# Altium schematic symbol library drive.SchLib: 17 symbols
Pins are listed as number, name and electrical type; pins without a type are passive.

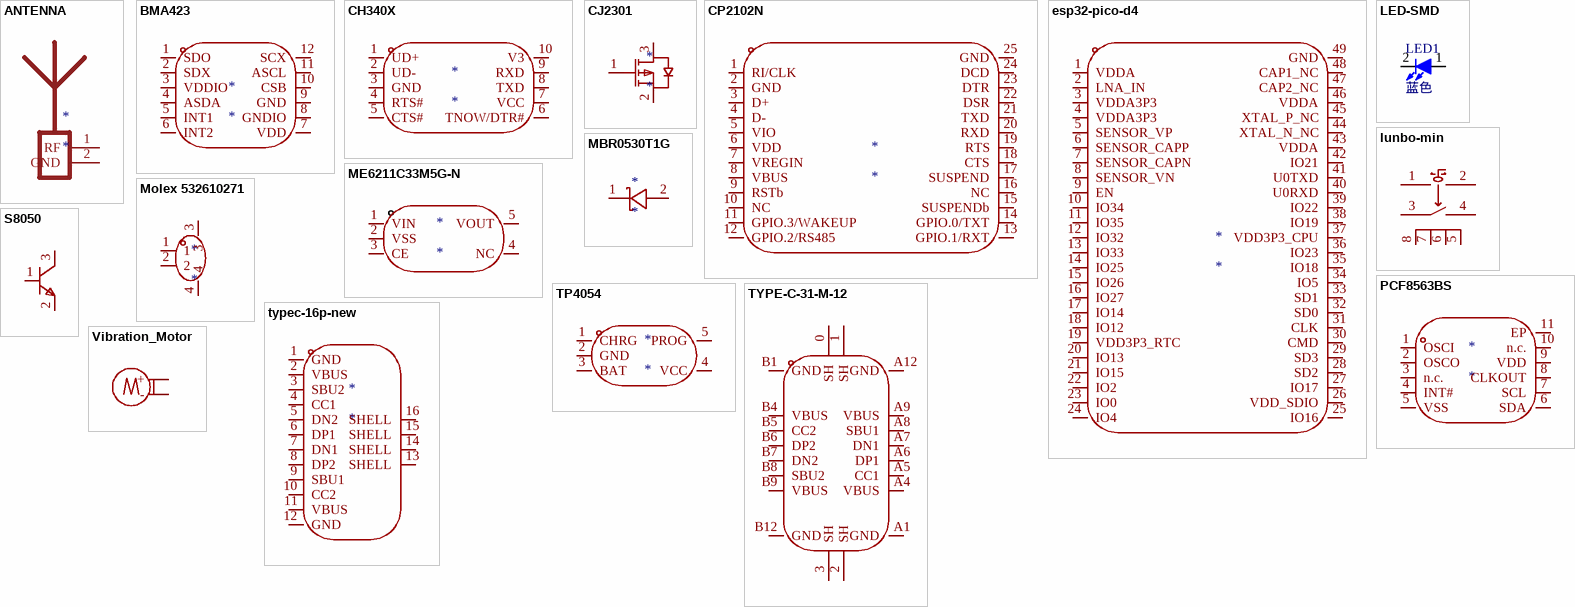
[diagram p0: symbols ANTENNA to Vibration_Motor]

## ANTENNA
designator *
pins: 1 RF, 2 GND

## BMA423
designator *
pins: 1 SDO, 2 SDX, 3 VDDIO, 4 ASDA, 5 INT1, 6 INT2, 7 VDD, 8 GNDIO, 9 GND, 10 CSB, 11 ASCL, 12 SCX

## CH340X
designator *
pins: 1 UD+, 2 UD-, 3 GND, 4 RTS#, 5 CTS#, 6 TNOW/DTR#, 7 VCC, 8 TXD, 9 RXD, 10 V3

## CJ2301
designator *
pins: 1 G, 2 S, 3 D

## CP2102N
designator *
pins: 1 RI/CLK, 2 GND, 3 D+, 4 D-, 5 VIO, 6 VDD, 7 VREGIN, 8 VBUS, 9 RSTb, 10 NC, 11 GPIO.3/WAKEUP, 12 GPIO.2/RS485, 13 GPIO.1/RXT, 14 GPIO.0/TXT, 15 SUSPENDb, 16 NC, 17 SUSPEND, 18 CTS, 19 RTS, 20 RXD, 21 TXD, 22 DSR, 23 DTR, 24 DCD, 25 GND

## esp32-pico-d4
designator *
pins: 1 VDDA, 2 LNA_IN, 3 VDDA3P3, 4 VDDA3P3, 5 SENSOR_VP, 6 SENSOR_CAPP, 7 SENSOR_CAPN, 8 SENSOR_VN, 9 EN, 10 IO34, 11 IO35, 12 IO32, 13 IO33, 14 IO25, 15 IO26, 16 IO27, 17 IO14, 18 IO12, 19 VDD3P3_RTC, 20 IO13, 21 IO15, 22 IO2, 23 IO0, 24 IO4, 25 IO16, 26 VDD_SDIO, 27 IO17, 28 SD2, 29 SD3, 30 CMD, 31 CLK, 32 SD0, 33 SD1, 34 IO5, 35 IO18, 36 IO23, 37 VDD3P3_CPU, 38 IO19, 39 IO22, 40 U0RXD, 41 U0TXD, 42 IO21, 43 VDDA, 44 XTAL_N_NC, 45 XTAL_P_NC, 46 VDDA, 47 CAP2_NC, 48 CAP1_NC, 49 GND

## LED-SMD
designator LED1, comment 蓝色
贴片LED; 版权归属: 源创客; BOM名称: 贴片LED; 学习资源: www.ooocke.com
footprint LED0402
pins: 1 A, 2 K

## lunbo-min
designator SW??, comment TM-2024A  (value not drawn)
Manufacturer: XKB Connection(中国星坤); Add into BOM: yes; Symbol: TM-2024A; Device: TM-2024A; LCSC Part Name: 四脚两档拨轮开关TM-2024A; Supplier Part: C561480; Manufacturer Part: TM-2024A; Supplier Footprint: SMD; JLCPCB Part Class: Extended Part; Datasheet: https://atta.szlcsc.com/upload/public/pdf/source/20211011/7A4DB3DC37E7D5823B6D92C66ED3191E.pdf; Supplier: LCSC; Convert to PCB: yes
footprint SW-SMD_TM-2024A
3D model SW-SMD_TM-2024A
pins: 1, 2, 3, 4, 5, 6, 7, 8

## MBR0530T1G
designator *
pins: 1 C, 2 A

## ME6211C33M5G-N
designator *
pins: 1 VIN, 2 VSS, 3 CE, 4 NC, 5 VOUT

## Molex 532610271
designator *
pins: 1, 2, 3, 4

## PCF8563BS
designator *
pins: 1 OSCI, 2 OSCO, 3 n.c., 4 INT#, 5 VSS, 6 SDA, 7 SCL, 8 CLKOUT, 9 VDD, 10 n.c., 11 EP

## S8050
designator *  (value not drawn)
Manufacturer: 宏嘉诚; Symbol: S8050_C20069125; Add into BOM: yes; Current - Collector(Ic): 500mA; Collector - Emitter Voltage VCEO: 25V; Pd - Power Dissipation: 300mW; DC Current Gain: 120@50mA,1.0V; Transition frequency(fT): 100MHz; Current - Collector Cutoff: 100nA; Vce Saturation(VCE(sat)): 600mV; Device: S8050_C20069125; LCSC Part Name: hFE:200-350，丝印:J3Y S8050; Supplier Part: C20069125; Manufacturer Part: S8050; Supplier Footprint: SOT-23; JLCPCB Part Class: Extended Part; Datasheet: https://atta.szlcsc.com/upload/public/pdf/source/20250107/343E8B94B5C24D0D65D7D4B70E0B73F6.pdf; Supplier: LCSC; Convert to PCB: yes; type: NPN; Operating Temperature: -55℃~+150℃
footprint SOT-23-3_L2.9-W1.3-P1.90-LS2.3-BR
3D model SOT-23-3_L2.9-W1.3-P1.90-LS2.3-BR
pins: 1 B, 2 E, 3 C

## TP4054
designator *
pins: 1 CHRG, 2 GND, 3 BAT, 4 VCC, 5 PROG

## TYPE-C-31-M-12
designator USBC??  (value not drawn)
Manufacturer: 韩国韩荣; Add into BOM: yes; Connector Type: Type-C; Gender: 母; Number of Contacts: 16P; Number of Ports: 1; Current Rating - Power (Max): 5A; Symbol: TYPE-C-31-M-12; Device: TYPE-C-31-M-12; LCSC Part Name: Type-C 母; Supplier Part: C165948; Manufacturer Part: TYPE-C-31-M-12; Supplier Footprint: SMD; JLCPCB Part Class: Extended Part; Datasheet: https://atta.szlcsc.com/upload/public/pdf/source/20220525/466408E853115E789EDB0DDC29077C05.pdf; Supplier: LCSC; Convert to PCB: yes; Standard: -; Mounting Style: -; Operating Temperature Range: -
footprint USB-C_SMD-TYPE-C-31-M-12
pins: 0 SH, 1 SH, 2 SH, 3 SH, A1 GND, A4 VBUS, A5 CC1, A6 DP1, A7 DN1, A8 SBU1, A9 VBUS, A12 GND, B1 GND, B4 VBUS, B5 CC2, B6 DP2, B7 DN2, B8 SBU2, B9 VBUS, B12 GND

## typec-16p-new
designator *
pins: 1 GND, 2 VBUS, 3 SBU2, 4 CC1, 5 DN2, 6 DP1, 7 DN1, 8 DP2, 9 SBU1, 10 CC2, 11 VBUS, 12 GND, 13 SHELL, 14 SHELL, 15 SHELL, 16 SHELL

## Vibration_Motor
designator MOT??, comment LCM1027A2445F  (value not drawn)
Manufacturer: LEADER(立得); Add into BOM: yes; Rated Voltage: 3V; Rated Current: 80mA; Rated Speed: 10000rpm; Sense Of Rotation: CW；CCW; Symbol: LCM1027A2445F; Device: LCM1027A2445F; LCSC Part Name: 扁平1027 振动马达; Supplier Part: C2759984; Manufacturer Part: LCM1027A2445F; Supplier Footprint: -; JLCPCB Part Class: Extended Part; Datasheet: https://atta.szlcsc.com/upload/public/pdf/source/20210326/C2759984_5008EC97BD438BDFB6866D31635439F4.pdf; Supplier: LCSC; Convert to PCB: yes; Type: 扁平振动马达; Operating Temperature: -20℃~+60℃
footprint VIBRATING-MOTOR-SMD_WELDING
3D model VIBRATING-MOTOR-SMD_WELDING
pins: 1 -, 2 +